# EAGLE library part PINHEAD? (library Z-Wave_Europe)
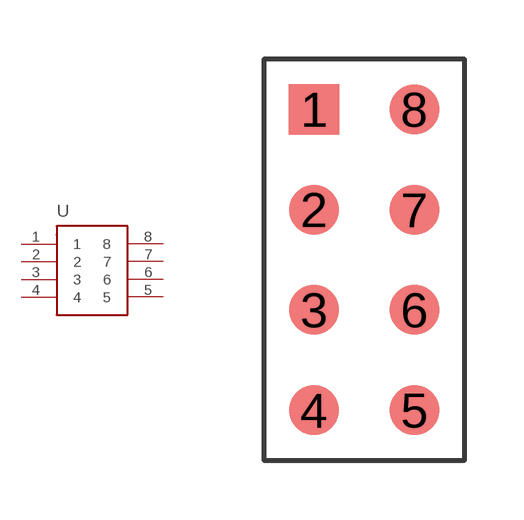
[diagram p7: symbol with the pads of 4X2_2.54; footprint 4X2_2.54]

Designator prefix -

## PINHEAD  [4X2_2.54]
1  1
2  2
3  3
4  4
5  5
6  6
7  7
8  8

## Footprint 4X2_2.54 (pad centres in mm)
smd 1.27 x 1.27: 1 -1.27,3.81; 2 -1.27,1.27; 3 -1.27,-1.27; 4 -1.27,-3.81; 5 1.27,-3.81; 6 1.27,-1.27; 7 1.27,1.27; 8 1.27,3.81